# Altium footprint library TO.PcbLib: 1 footprints
Each footprint in its own frame and in the unit in brackets; x right, y up, seen from the top. Pads: shape width x height; smd on the part's side, far side on the other; paste and mask are expansions set on the pad; w line width, h text height; cw(c..) or ccw(c..) is an arc to the next point about the centre after c.
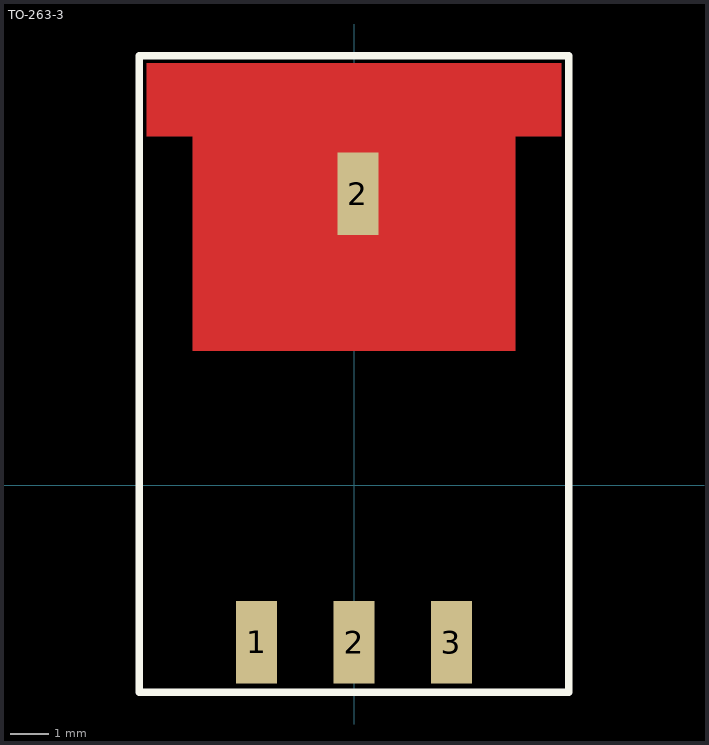
[diagram p0: the footprint, top view; thin cyan lines are the x and y axes]

## TO-263-3 [mil]
pads (4):
  rect 42x85 smd: 1(-100,-161.42) 2(0,-161.42) 2(3.94,299.21) 3(100,-161.42)
Top Layer:
  region: -212.6,358.27 -165.35,358.27 -165.35,137.8 165.35,137.8 165.35,358.27 212.6,358.27 212.6,433.07 -212.6,433.07
Top Overlay:
  lines w7.87: -220.47,-212.6 -220.47,440.94 220.47,440.94 220.47,-212.6 -220.47,-212.6
3D body "TO263-3.STEP": height 188.3, standoff -0.68, extent -196.84,-196.45 196.86,420.48